# Altium footprint library RES_VAR_1.PcbLib: 1 footprints
Each footprint in its own frame and in the unit in brackets; x right, y up, seen from the top. Pads: shape width x height; smd on the part's side, far side on the other; paste and mask are expansions set on the pad; w line width, h text height; cw(c..) or ccw(c..) is an arc to the next point about the centre after c.
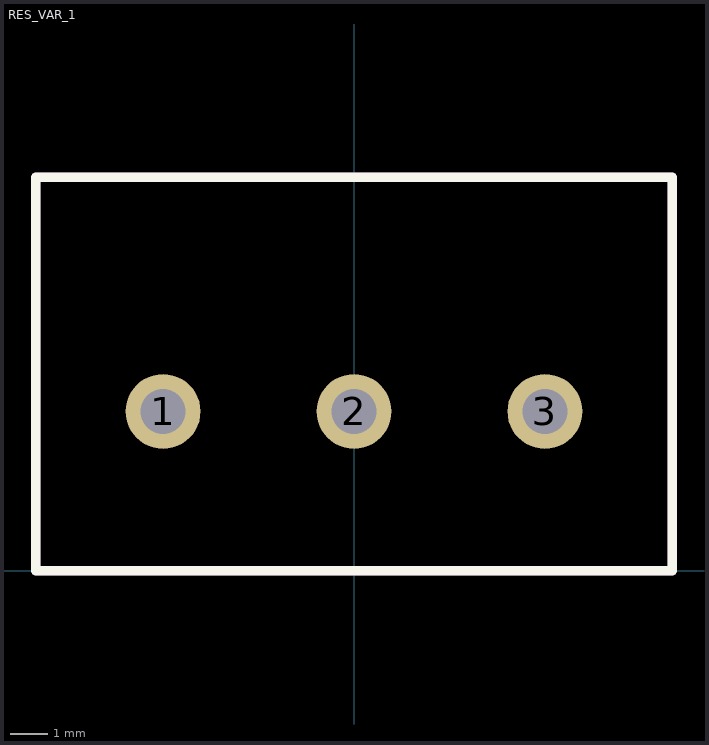
[diagram p0: the footprint, top view; thin cyan lines are the x and y axes]

## RES_VAR_1 [mm]
pads (3):
  round 2 hole 1.2: 1(-5.1,4.25) 2(0,4.25) 3(5.1,4.25)
Top Overlay:
  lines w0.254: -8.5,0 8.5,0 8.5,10.5 -8.5,10.5 -8.5,0
Top Assembly:
  lines w0.254: -8.5,0 -8.5,10.5 8.5,10.5 8.5,0 -8.5,0
  text "'.Designator'" at 0,6 h0.7
3D body "Assem1.STEP": height 22.49, standoff -2.55, extent -8.5,-19.3 8.5,9.7